# EAGLE library part IC144 (library 1-Generic)
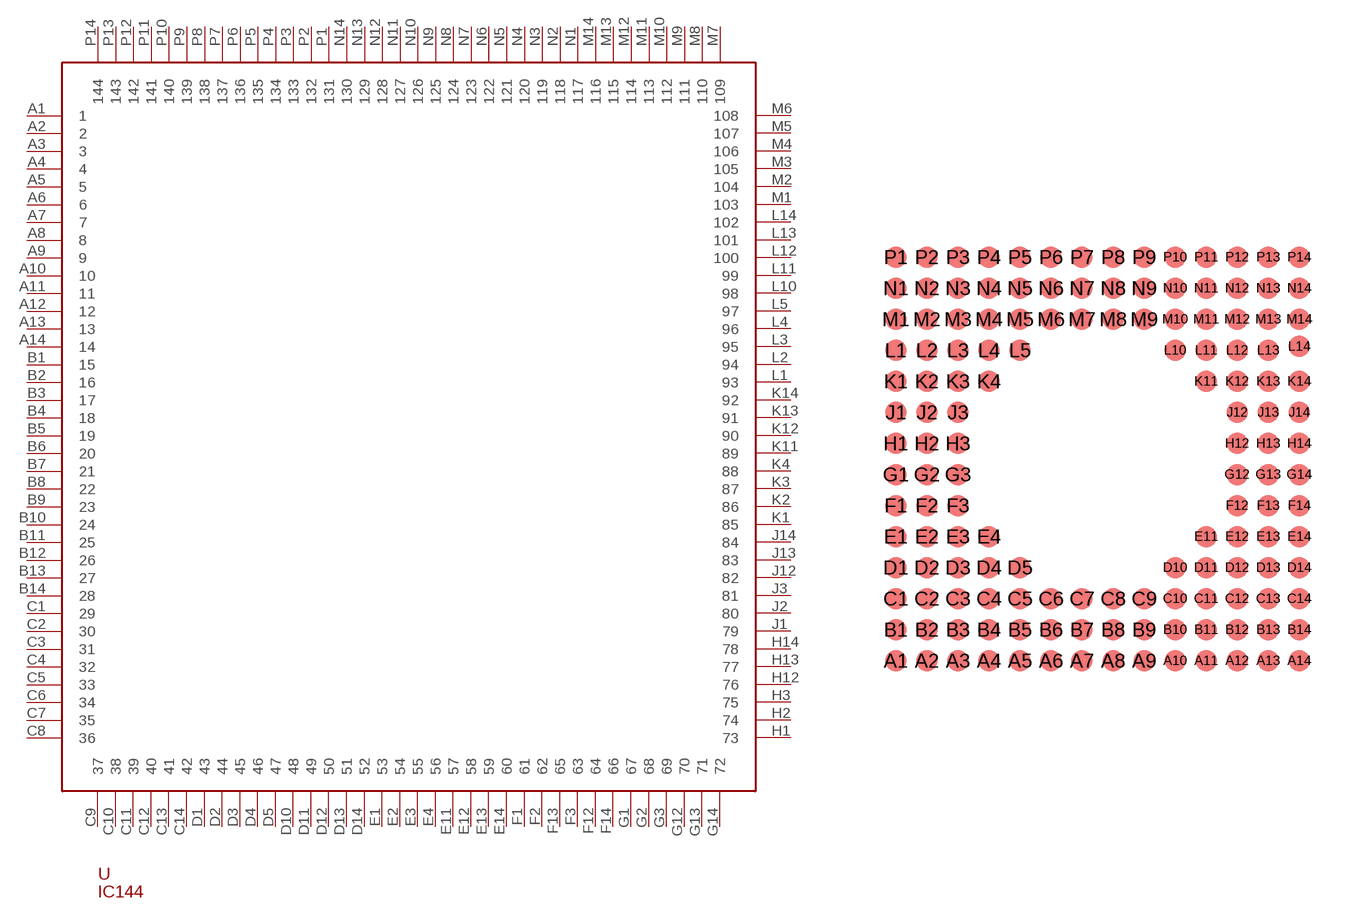
[diagram p19: symbol with the pads of BGA-144; footprint BGA-144]

Designator prefix U

## IC144  [BGA-144]
A1  1
A2  2
A3  3
A4  4
A5  5
A6  6
A7  7
A8  8
A9  9
A10  10
A11  11
A12  12
A13  13
A14  14
B1  15
B2  16
B3  17
B4  18
B5  19
B6  20
B7  21
B8  22
B9  23
B10  24
B11  25
B12  26
B13  27
B14  28
C1  29
C2  30
C3  31
C4  32
C5  33
C6  34
C7  35
C8  36
C9  37
C10  38
C11  39
C12  40
C13  41
C14  42
D1  43
D2  44
D3  45
D4  46
D5  47
D10  48
D11  49
D12  50
D13  51
D14  52
E1  53
E2  54
E3  55
E4  56
E11  57
E12  58
E13  59
E14  60
F1  61
F2  62
F3  63
F12  64
F13  65
F14  66
G1  67
G2  68
G3  69
G12  70
G13  71
G14  72
H1  73
H2  74
H3  75
H12  76
H13  77
H14  78
J1  79
J2  80
J3  81
J12  82
J13  83
J14  84
K1  85
K2  86
K3  87
K4  88
K11  89
K12  90
K13  91
K14  92
L1  93
L2  94
L3  95
L4  96
L5  97
L10  98
L11  99
L12  100
L13  101
L14  102
M1  103
M2  104
M3  105
M4  106
M5  107
M6  108
M7  109
M8  110
M9  111
M10  112
M11  113
M12  114
M13  115
M14  116
N1  117
N2  118
N3  119
N4  120
N5  121
N6  122
N7  123
N8  124
N9  125
N10  126
N11  127
N12  128
N13  129
N14  130
P1  131
P2  132
P3  133
P4  134
P5  135
P6  136
P7  137
P8  138
P9  139
P10  140
P11  141
P12  142
P13  143
P14  144

## Footprint BGA-144 (pad centres in mm)
smd 0.55 x 0.55: A1 -5.2,-5.2; A2 -4.4,-5.2; A3 -3.6,-5.2; A4 -2.8,-5.2; A5 -2,-5.2; A6 -1.2,-5.2; A7 -0.4,-5.2; A8 0.4,-5.2; A9 1.2,-5.2; A10 2,-5.2; A11 2.8,-5.2; A12 3.6,-5.2; A13 4.4,-5.2; A14 5.2,-5.2; B1 -5.2,-4.4; B2 -4.4,-4.4; B3 -3.6,-4.4; B4 -2.8,-4.4; B5 -2,-4.4; B6 -1.2,-4.4; B7 -0.4,-4.4; B8 0.4,-4.4; B9 1.2,-4.4; B10 2,-4.4; B11 2.8,-4.4; B12 3.6,-4.4; B13 4.4,-4.4; B14 5.2,-4.4; C1 -5.2,-3.6; C2 -4.4,-3.6; C3 -3.6,-3.6; C4 -2.8,-3.6; C5 -2,-3.6; C6 -1.2,-3.6; C7 -0.4,-3.6; C8 0.4,-3.6; C9 1.2,-3.6; C10 2,-3.6; C11 2.8,-3.6; C12 3.6,-3.6; C13 4.4,-3.6; C14 5.2,-3.6; D1 -5.2,-2.8; D2 -4.4,-2.8; D3 -3.6,-2.8; D4 -2.8,-2.8; D5 -2,-2.8; D10 2,-2.8; D11 2.8,-2.8; D12 3.6,-2.8; D13 4.4,-2.8; D14 5.2,-2.8; E1 -5.2,-2; E2 -4.4,-2; E3 -3.6,-2; E4 -2.8,-2; E11 2.8,-2; E12 3.6,-2; E13 4.4,-2; E14 5.2,-2; F1 -5.2,-1.2; F2 -4.4,-1.2; F3 -3.6,-1.2; F12 3.6,-1.2; F13 4.4,-1.2; F14 5.2,-1.2; G1 -5.2,-0.4; G2 -4.4,-0.4; G3 -3.6,-0.4; G12 3.6,-0.4; G13 4.4,-0.4; G14 5.2,-0.4; H1 -5.2,0.4; H2 -4.4,0.4; H3 -3.6,0.4; H12 3.6,0.4; H13 4.4,0.4; H14 5.2,0.4; J1 -5.2,1.2; J2 -4.4,1.2; J3 -3.6,1.2; J12 3.6,1.2; J13 4.4,1.2; J14 5.2,1.2; K1 -5.2,2; K2 -4.4,2; K3 -3.6,2; K4 -2.8,2; K11 2.8,2; K12 3.6,2; K13 4.4,2; K14 5.2,2; L1 -5.2,2.8; L2 -4.4,2.8; L3 -3.6,2.8; L4 -2.8,2.8; L5 -2,2.8; L10 2,2.8; L11 2.8,2.8; L12 3.6,2.8; L13 4.4,2.8; L14 5.2,2.9; M1 -5.2,3.6; M2 -4.4,3.6; M3 -3.6,3.6; M4 -2.8,3.6; M5 -2,3.6; M6 -1.2,3.6; M7 -0.4,3.6; M8 0.4,3.6; M9 1.2,3.6; M10 2,3.6; M11 2.8,3.6; M12 3.6,3.6; M13 4.4,3.6; M14 5.2,3.6; N1 -5.2,4.4; N2 -4.4,4.4; N3 -3.6,4.4; N4 -2.8,4.4; N5 -2,4.4; N6 -1.2,4.4; N7 -0.4,4.4; N8 0.4,4.4; N9 1.2,4.4; N10 2,4.4; N11 2.8,4.4; N12 3.6,4.4; N13 4.4,4.4; N14 5.2,4.4; P1 -5.2,5.2; P2 -4.4,5.2; P3 -3.6,5.2; P4 -2.8,5.2; P5 -2,5.2; P6 -1.2,5.2; P7 -0.4,5.2; P8 0.4,5.2; P9 1.2,5.2; P10 2,5.2; P11 2.8,5.2; P12 3.6,5.2; P13 4.4,5.2; P14 5.2,5.2